# Altium integrated library Altium_WR-MM (rev22a).IntLib: 120 symbols (part 1 of 3)
Pins are listed as number, name and electrical type; pins without a type are passive.

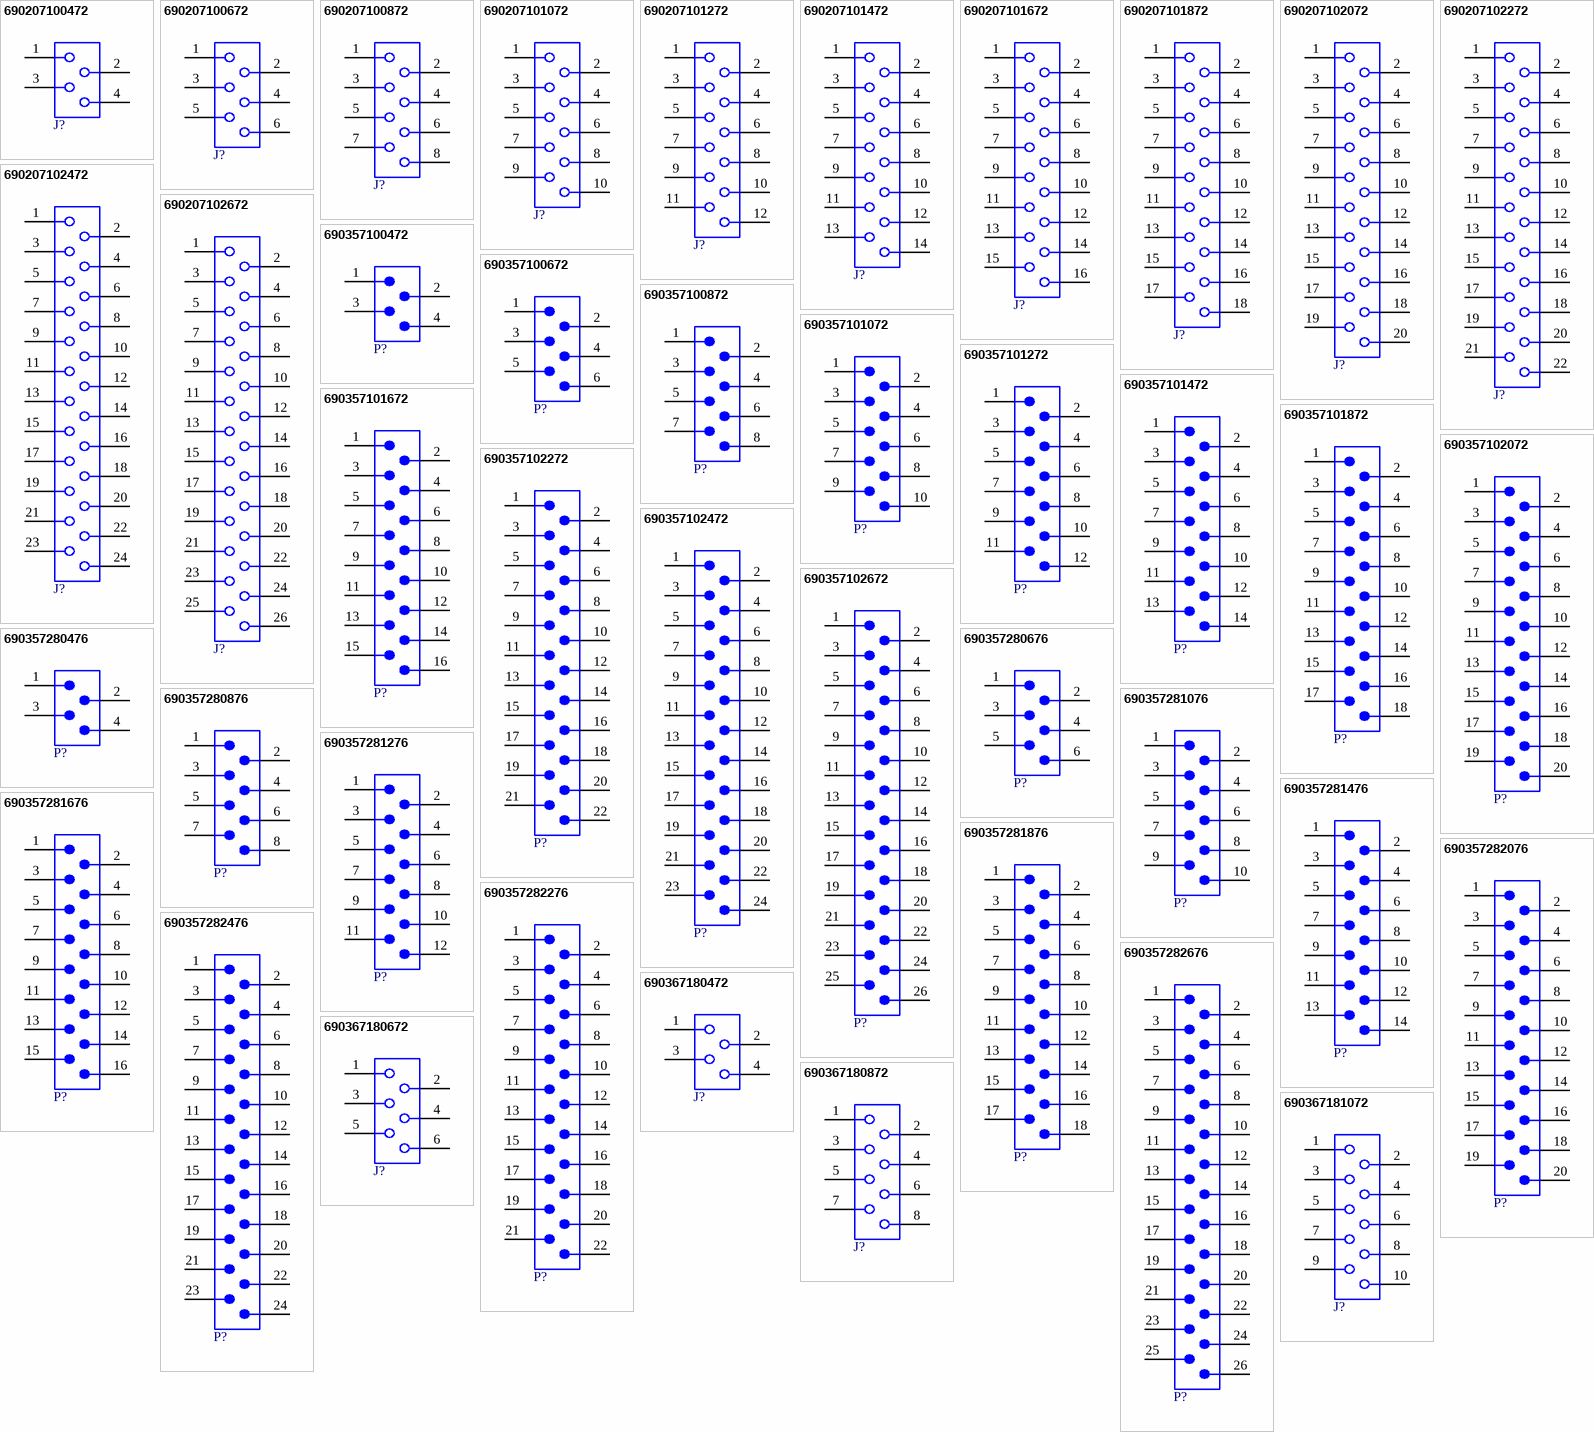
[diagram p0: symbols 690207100472 to 690367181072]

## 690207100472
designator J?  (value not drawn)
WR-MM Mini Module Connector, Transition, THT, Straight, pitch 2.54mm, 4p; Manufacturer: Wurth Elektronik; Contact Resistance: 10mΩ; Insulation Resistance: 1000MΩ; Rated Current: 1A; Working Voltage: 250VAC; Withstanding Voltage: 500VAC; ComponentLink1Description: Website Link; ComponentLink1URL: https://www.we-online.com/redexpert/article/690207100472?ad; ComponentLink2Description: Datasheet Link; ComponentLink2URL: https://www.we-online.com/redexpert/spec/690207100472?ad; Manufacturer Part Number: 690207100472; Category: Board-to-Board Connectors; Match Code: WR-MM; Mount: Through Hole; Operating Temperature Max: 105°C; Operating Temperature Min: -40°C; Packaging: Tube; Length: 8.51mm; Gender: Transition; Number of Pins: 4; Orientation: Straight; Pitch: 2.54mm
footprint 690207100472
pins: 1, 2, 3, 4

## 690207100672
designator J?  (value not drawn)
WR-MM Mini Module Connector, Transition, THT, Straight, pitch 2.54mm, 6p; Manufacturer: Wurth Elektronik; Contact Resistance: 10mΩ; Insulation Resistance: 1000MΩ; Rated Current: 1A; Working Voltage: 250VAC; Withstanding Voltage: 500VAC; ComponentLink1Description: Website Link; ComponentLink1URL: https://www.we-online.com/redexpert/article/690207100672?ad; ComponentLink2Description: Datasheet Link; ComponentLink2URL: https://www.we-online.com/redexpert/spec/690207100672?ad; Manufacturer Part Number: 690207100672; Category: Board-to-Board Connectors; Match Code: WR-MM; Mount: Through Hole; Operating Temperature Max: 105°C; Operating Temperature Min: -40°C; Packaging: Tube; Length: 11.05mm; Gender: Transition; Number of Pins: 6; Orientation: Straight; Pitch: 2.54mm
footprint 690207100672
pins: 1, 2, 3, 4, 5, 6

## 690207100872
designator J?  (value not drawn)
WR-MM Mini Module Connector, Transition, THT, Straight, pitch 2.54mm, 8p; Manufacturer: Wurth Elektronik; Contact Resistance: 10mΩ; Insulation Resistance: 1000MΩ; Rated Current: 1A; Working Voltage: 250VAC; Withstanding Voltage: 500VAC; ComponentLink1Description: Website Link; ComponentLink1URL: https://www.we-online.com/redexpert/article/690207100872?ad; ComponentLink2Description: Datasheet Link; ComponentLink2URL: https://www.we-online.com/redexpert/spec/690207100872?ad; Manufacturer Part Number: 690207100872; Category: Board-to-Board Connectors; Match Code: WR-MM; Mount: Through Hole; Operating Temperature Max: 105°C; Operating Temperature Min: -40°C; Packaging: Tube; Length: 13.59mm; Gender: Transition; Number of Pins: 8; Orientation: Straight; Pitch: 2.54mm
footprint 690207100872
pins: 1, 2, 3, 4, 5, 6, 7, 8

## 690207101072
designator J?  (value not drawn)
WR-MM Mini Module Connector, Transition, THT, Straight, pitch 2.54mm, 10p; Manufacturer: Wurth Elektronik; Contact Resistance: 10mΩ; Insulation Resistance: 1000MΩ; Rated Current: 1A; Working Voltage: 250VAC; Withstanding Voltage: 500VAC; ComponentLink1Description: Website Link; ComponentLink1URL: https://www.we-online.com/redexpert/article/690207101072?ad; ComponentLink2Description: Datasheet Link; ComponentLink2URL: https://www.we-online.com/redexpert/spec/690207101072?ad; Manufacturer Part Number: 690207101072; Category: Board-to-Board Connectors; Match Code: WR-MM; Mount: Through Hole; Operating Temperature Max: 105°C; Operating Temperature Min: -40°C; Packaging: Tube; Length: 16.13mm; Gender: Transition; Number of Pins: 10; Orientation: Straight; Pitch: 2.54mm
footprint 690207101072
pins: 1, 2, 3, 4, 5, 6, 7, 8, 9, 10

## 690207101272
designator J?  (value not drawn)
WR-MM Mini Module Connector, Transition, THT, Straight, pitch 2.54mm, 12p; Manufacturer: Wurth Elektronik; Contact Resistance: 10mΩ; Insulation Resistance: 1000MΩ; Rated Current: 1A; Working Voltage: 250VAC; Withstanding Voltage: 500VAC; ComponentLink1Description: Website Link; ComponentLink1URL: https://www.we-online.com/redexpert/article/690207101272?ad; ComponentLink2Description: Datasheet Link; ComponentLink2URL: https://www.we-online.com/redexpert/spec/690207101272?ad; Manufacturer Part Number: 690207101272; Category: Board-to-Board Connectors; Match Code: WR-MM; Mount: Through Hole; Operating Temperature Max: 105°C; Operating Temperature Min: -40°C; Packaging: Tube; Length: 18.67mm; Gender: Transition; Number of Pins: 12; Orientation: Straight; Pitch: 2.54mm
footprint 690207101272
pins: 1, 2, 3, 4, 5, 6, 7, 8, 9, 10, 11, 12

## 690207101472
designator J?  (value not drawn)
WR-MM Mini Module Connector, Transition, THT, Straight, pitch 2.54mm, 14p; Manufacturer: Wurth Elektronik; Contact Resistance: 10mΩ; Insulation Resistance: 1000MΩ; Rated Current: 1A; Working Voltage: 250VAC; Withstanding Voltage: 500VAC; ComponentLink1Description: Website Link; ComponentLink1URL: https://www.we-online.com/redexpert/article/690207101472?ad; ComponentLink2Description: Datasheet Link; ComponentLink2URL: https://www.we-online.com/redexpert/spec/690207101472?ad; Manufacturer Part Number: 690207101472; Category: Board-to-Board Connectors; Match Code: WR-MM; Mount: Through Hole; Operating Temperature Max: 105°C; Operating Temperature Min: -40°C; Packaging: Tube; Length: 21.21mm; Gender: Transition; Number of Pins: 14; Orientation: Straight; Pitch: 2.54mm
footprint 690207101472
pins: 1, 2, 3, 4, 5, 6, 7, 8, 9, 10, 11, 12, 13, 14

## 690207101672
designator J?  (value not drawn)
WR-MM Mini Module Connector, Transition, THT, Straight, pitch 2.54mm, 16p; Manufacturer: Wurth Elektronik; Contact Resistance: 10mΩ; Insulation Resistance: 1000MΩ; Rated Current: 1A; Working Voltage: 250VAC; Withstanding Voltage: 500VAC; ComponentLink1Description: Website Link; ComponentLink1URL: https://www.we-online.com/redexpert/article/690207101672?ad; ComponentLink2Description: Datasheet Link; ComponentLink2URL: https://www.we-online.com/redexpert/spec/690207101672?ad; Manufacturer Part Number: 690207101672; Category: Board-to-Board Connectors; Match Code: WR-MM; Mount: Through Hole; Operating Temperature Max: 105°C; Operating Temperature Min: -40°C; Packaging: Tube; Length: 23.75mm; Gender: Transition; Number of Pins: 16; Orientation: Straight; Pitch: 2.54mm
footprint 690207101672
pins: 1, 2, 3, 4, 5, 6, 7, 8, 9, 10, 11, 12, 13, 14, 15, 16

## 690207101872
designator J?  (value not drawn)
WR-MM Mini Module Connector, Transition, THT, Straight, pitch 2.54mm, 18p; Manufacturer: Wurth Elektronik; Contact Resistance: 10mΩ; Insulation Resistance: 1000MΩ; Rated Current: 1A; Working Voltage: 250VAC; Withstanding Voltage: 500VAC; ComponentLink1Description: Website Link; ComponentLink1URL: https://www.we-online.com/redexpert/article/690207101872?ad; ComponentLink2Description: Datasheet Link; ComponentLink2URL: https://www.we-online.com/redexpert/spec/690207101872?ad; Manufacturer Part Number: 690207101872; Category: Board-to-Board Connectors; Match Code: WR-MM; Mount: Through Hole; Operating Temperature Max: 105°C; Operating Temperature Min: -40°C; Packaging: Tube; Length: 26.29mm; Gender: Transition; Number of Pins: 18; Orientation: Straight; Pitch: 2.54mm
footprint 690207101872
pins: 1, 2, 3, 4, 5, 6, 7, 8, 9, 10, 11, 12, 13, 14, 15, 16, 17, 18

## 690207102072
designator J?  (value not drawn)
WR-MM Mini Module Connector, Transition, THT, Straight, pitch 2.54mm, 20p; Manufacturer: Wurth Elektronik; Contact Resistance: 10mΩ; Insulation Resistance: 1000MΩ; Rated Current: 1A; Working Voltage: 250VAC; Withstanding Voltage: 500VAC; ComponentLink1Description: Website Link; ComponentLink1URL: https://www.we-online.com/redexpert/article/690207102072?ad; ComponentLink2Description: Datasheet Link; ComponentLink2URL: https://www.we-online.com/redexpert/spec/690207102072?ad; Manufacturer Part Number: 690207102072; Category: Board-to-Board Connectors; Match Code: WR-MM; Mount: Through Hole; Operating Temperature Max: 105°C; Operating Temperature Min: -40°C; Packaging: Tube; Length: 28.83mm; Gender: Transition; Number of Pins: 20; Orientation: Straight; Pitch: 2.54mm
footprint 690207102072
pins: 1, 2, 3, 4, 5, 6, 7, 8, 9, 10, 11, 12, 13, 14, 15, 16, 17, 18, 19, 20

## 690207102272
designator J?  (value not drawn)
WR-MM Mini Module Connector, Transition, THT, Straight, pitch 2.54mm, 22p; Manufacturer: Wurth Elektronik; Contact Resistance: 10mΩ; Insulation Resistance: 1000MΩ; Rated Current: 1A; Working Voltage: 250VAC; Withstanding Voltage: 500VAC; ComponentLink1Description: Website Link; ComponentLink1URL: https://www.we-online.com/redexpert/article/690207102272?ad; ComponentLink2Description: Datasheet Link; ComponentLink2URL: https://www.we-online.com/redexpert/spec/690207102272?ad; Manufacturer Part Number: 690207102272; Category: Board-to-Board Connectors; Match Code: WR-MM; Mount: Through Hole; Operating Temperature Max: 105°C; Operating Temperature Min: -40°C; Packaging: Tube; Length: 31.37mm; Gender: Transition; Number of Pins: 22; Orientation: Straight; Pitch: 2.54mm
footprint 690207102272
pins: 1, 2, 3, 4, 5, 6, 7, 8, 9, 10, 11, 12, 13, 14, 15, 16, 17, 18, 19, 20, 21, 22

## 690207102472
designator J?  (value not drawn)
WR-MM Mini Module Connector, Transition, THT, Straight, pitch 2.54mm, 24p; Manufacturer: Wurth Elektronik; Contact Resistance: 10mΩ; Insulation Resistance: 1000MΩ; Rated Current: 1A; Working Voltage: 250VAC; Withstanding Voltage: 500VAC; ComponentLink1Description: Website Link; ComponentLink1URL: https://www.we-online.com/redexpert/article/690207102472?ad; ComponentLink2Description: Datasheet Link; ComponentLink2URL: https://www.we-online.com/redexpert/spec/690207102472?ad; Manufacturer Part Number: 690207102472; Category: Board-to-Board Connectors; Match Code: WR-MM; Mount: Through Hole; Operating Temperature Max: 105°C; Operating Temperature Min: -40°C; Packaging: Tube; Length: 33.91mm; Gender: Transition; Number of Pins: 24; Orientation: Straight; Pitch: 2.54mm
footprint 690207102472
pins: 1, 2, 3, 4, 5, 6, 7, 8, 9, 10, 11, 12, 13, 14, 15, 16, 17, 18, 19, 20, 21, 22, 23, 24

## 690207102672
designator J?  (value not drawn)
WR-MM Mini Module Connector, Transition, THT, Straight, pitch 2.54mm, 26p; Manufacturer: Wurth Elektronik; Contact Resistance: 10mΩ; Insulation Resistance: 1000MΩ; Rated Current: 1A; Working Voltage: 250VAC; Withstanding Voltage: 500VAC; ComponentLink1Description: Website Link; ComponentLink1URL: https://www.we-online.com/redexpert/article/690207102672?ad; ComponentLink2Description: Datasheet Link; ComponentLink2URL: https://www.we-online.com/redexpert/spec/690207102672?ad; Manufacturer Part Number: 690207102672; Category: Board-to-Board Connectors; Match Code: WR-MM; Mount: Through Hole; Operating Temperature Max: 105°C; Operating Temperature Min: -40°C; Packaging: Tube; Length: 36.45mm; Gender: Transition; Number of Pins: 26; Orientation: Straight; Pitch: 2.54mm
footprint 690207102672
pins: 1, 2, 3, 4, 5, 6, 7, 8, 9, 10, 11, 12, 13, 14, 15, 16, 17, 18, 19, 20, 21, 22, 23, 24, 25, 26

## 690357100472
designator P?  (value not drawn)
WR-MM Mini Module Connector, Male, THT, without Latch, with Polarization, Straight, pitch 2.54mm, 4p; Manufacturer: Wurth Elektronik; Contact Resistance: 10mΩ; Insulation Resistance: 1000MΩ; Rated Current: 1.5A; Working Voltage: 250VAC; Withstanding Voltage: 500VAC; ComponentLink1Description: Website Link; ComponentLink1URL: https://www.we-online.com/redexpert/article/690357100472?ad; ComponentLink2Description: Datasheet Link; ComponentLink2URL: https://www.we-online.com/redexpert/spec/690357100472?ad; Manufacturer Part Number: 690357100472; Category: Board-to-Board Connectors; Match Code: WR-MM; Mount: Through Hole; Operating Temperature Max: 105°C; Operating Temperature Min: -40°C; Packaging: Tube; Length: 7.11mm; Gender: Male; Number of Pins: 4; Orientation: Straight; Pitch: 2.54mm
footprint 690357100472
pins: 1, 2, 3, 4

## 690357100672
designator P?  (value not drawn)
WR-MM Mini Module Connector, Male, THT, without Latch, with Polarization, Straight, pitch 2.54mm, 6p; Manufacturer: Wurth Elektronik; Contact Resistance: 10mΩ; Insulation Resistance: 1000MΩ; Rated Current: 1.5A; Working Voltage: 250VAC; Withstanding Voltage: 500VAC; ComponentLink1Description: Website Link; ComponentLink1URL: https://www.we-online.com/redexpert/article/690357100672?ad; ComponentLink2Description: Datasheet Link; ComponentLink2URL: https://www.we-online.com/redexpert/spec/690357100672?ad; Manufacturer Part Number: 690357100672; Category: Board-to-Board Connectors; Match Code: WR-MM; Mount: Through Hole; Operating Temperature Max: 105°C; Operating Temperature Min: -40°C; Packaging: Tube; Length: 9.65mm; Gender: Male; Number of Pins: 6; Orientation: Straight; Pitch: 2.54mm
footprint 690357100672
pins: 1, 2, 3, 4, 5, 6

## 690357100872
designator P?  (value not drawn)
WR-MM Mini Module Connector, Male, THT, without Latch, with Polarization, Straight, pitch 2.54mm, 8p; Manufacturer: Wurth Elektronik; Contact Resistance: 10mΩ; Insulation Resistance: 1000MΩ; Rated Current: 1.5A; Working Voltage: 250VAC; Withstanding Voltage: 500VAC; ComponentLink1Description: Website Link; ComponentLink1URL: https://www.we-online.com/redexpert/article/690357100872?ad; ComponentLink2Description: Datasheet Link; ComponentLink2URL: https://www.we-online.com/redexpert/spec/690357100872?ad; Manufacturer Part Number: 690357100872; Category: Board-to-Board Connectors; Match Code: WR-MM; Mount: Through Hole; Operating Temperature Max: 105°C; Operating Temperature Min: -40°C; Packaging: Tube; Length: 12.19mm; Gender: Male; Number of Pins: 8; Orientation: Straight; Pitch: 2.54mm
footprint 690357100872
pins: 1, 2, 3, 4, 5, 6, 7, 8

## 690357101072
designator P?  (value not drawn)
WR-MM Mini Module Connector, Male, THT, without Latch, with Polarization, Straight, pitch 2.54mm, 10; Manufacturer: Wurth Elektronik; Contact Resistance: 10mΩ; Insulation Resistance: 1000MΩ; Rated Current: 1.5A; Working Voltage: 250VAC; Withstanding Voltage: 500VAC; ComponentLink1Description: Website Link; ComponentLink1URL: https://www.we-online.com/redexpert/article/690357101072?ad; ComponentLink2Description: Datasheet Link; ComponentLink2URL: https://www.we-online.com/redexpert/spec/690357101072?ad; Manufacturer Part Number: 690357101072; Category: Board-to-Board Connectors; Match Code: WR-MM; Mount: Through Hole; Operating Temperature Max: 105°C; Operating Temperature Min: -40°C; Packaging: Tube; Length: 14.73mm; Gender: Male; Number of Pins: 10; Orientation: Straight; Pitch: 2.54mm
footprint 690357101072
pins: 1, 2, 3, 4, 5, 6, 7, 8, 9, 10

## 690357101272
designator P?  (value not drawn)
WR-MM Mini Module Connector, Male, THT, without Latch, with Polarization, Straight, pitch 2.54mm, 12; Manufacturer: Wurth Elektronik; Contact Resistance: 10mΩ; Insulation Resistance: 1000MΩ; Rated Current: 1.5A; Working Voltage: 250VAC; Withstanding Voltage: 500VAC; ComponentLink1Description: Website Link; ComponentLink1URL: https://www.we-online.com/redexpert/article/690357101272?ad; ComponentLink2Description: Datasheet Link; ComponentLink2URL: https://www.we-online.com/redexpert/spec/690357101272?ad; Manufacturer Part Number: 690357101272; Category: Board-to-Board Connectors; Match Code: WR-MM; Mount: Through Hole; Operating Temperature Max: 105°C; Operating Temperature Min: -40°C; Packaging: Tube; Length: 17.27mm; Gender: Male; Number of Pins: 12; Orientation: Straight; Pitch: 2.54mm
footprint 690357101272
pins: 1, 2, 3, 4, 5, 6, 7, 8, 9, 10, 11, 12

## 690357101472
designator P?  (value not drawn)
WR-MM Mini Module Connector, Male, THT, without Latch, with Polarization, Straight, pitch 2.54mm, 14; Manufacturer: Wurth Elektronik; Contact Resistance: 10mΩ; Insulation Resistance: 1000MΩ; Rated Current: 1.5A; Working Voltage: 250VAC; Withstanding Voltage: 500VAC; ComponentLink1Description: Website Link; ComponentLink1URL: https://www.we-online.com/redexpert/article/690357101472?ad; ComponentLink2Description: Datasheet Link; ComponentLink2URL: https://www.we-online.com/redexpert/spec/690357101472?ad; Manufacturer Part Number: 690357101472; Category: Board-to-Board Connectors; Match Code: WR-MM; Mount: Through Hole; Operating Temperature Max: 105°C; Operating Temperature Min: -40°C; Packaging: Tube; Length: 19.81mm; Gender: Male; Number of Pins: 14; Orientation: Straight; Pitch: 2.54mm
footprint 690357101472
pins: 1, 2, 3, 4, 5, 6, 7, 8, 9, 10, 11, 12, 13, 14

## 690357101672
designator P?  (value not drawn)
WR-MM Mini Module Connector, Male, THT, without Latch, with Polarization, Straight, pitch 2.54mm, 16; Manufacturer: Wurth Elektronik; Contact Resistance: 10mΩ; Insulation Resistance: 1000MΩ; Rated Current: 1.5A; Working Voltage: 250VAC; Withstanding Voltage: 500VAC; ComponentLink1Description: Website Link; ComponentLink1URL: https://www.we-online.com/redexpert/article/690357101672?ad; ComponentLink2Description: Datasheet Link; ComponentLink2URL: https://www.we-online.com/redexpert/spec/690357101672?ad; Manufacturer Part Number: 690357101672; Category: Board-to-Board Connectors; Match Code: WR-MM; Mount: Through Hole; Operating Temperature Max: 105°C; Operating Temperature Min: -40°C; Packaging: Tube; Length: 22.35mm; Gender: Male; Number of Pins: 16; Orientation: Straight; Pitch: 2.54mm
footprint 690357101672
pins: 1, 2, 3, 4, 5, 6, 7, 8, 9, 10, 11, 12, 13, 14, 15, 16

## 690357101872
designator P?  (value not drawn)
WR-MM Mini Module Connector, Male, THT, without Latch, with Polarization, Straight, pitch 2.54mm, 18; Manufacturer: Wurth Elektronik; Contact Resistance: 10mΩ; Insulation Resistance: 1000MΩ; Rated Current: 1.5A; Working Voltage: 250VAC; Withstanding Voltage: 500VAC; ComponentLink1Description: Website Link; ComponentLink1URL: https://www.we-online.com/redexpert/article/690357101872?ad; ComponentLink2Description: Datasheet Link; ComponentLink2URL: https://www.we-online.com/redexpert/spec/690357101872?ad; Manufacturer Part Number: 690357101872; Category: Board-to-Board Connectors; Match Code: WR-MM; Mount: Through Hole; Operating Temperature Max: 105°C; Operating Temperature Min: -40°C; Packaging: Tube; Length: 24.89mm; Gender: Male; Number of Pins: 18; Orientation: Straight; Pitch: 2.54mm
footprint 690357101872
pins: 1, 2, 3, 4, 5, 6, 7, 8, 9, 10, 11, 12, 13, 14, 15, 16, 17, 18

## 690357102072
designator P?  (value not drawn)
WR-MM Mini Module Connector, Male, THT, without Latch, with Polarization, Straight, pitch 2.54mm, 20; Manufacturer: Wurth Elektronik; Contact Resistance: 10mΩ; Insulation Resistance: 1000MΩ; Rated Current: 1.5A; Working Voltage: 250VAC; Withstanding Voltage: 500VAC; ComponentLink1Description: Website Link; ComponentLink1URL: https://www.we-online.com/redexpert/article/690357102072?ad; ComponentLink2Description: Datasheet Link; ComponentLink2URL: https://www.we-online.com/redexpert/spec/690357102072?ad; Manufacturer Part Number: 690357102072; Category: Board-to-Board Connectors; Match Code: WR-MM; Mount: Through Hole; Operating Temperature Max: 105°C; Operating Temperature Min: -40°C; Packaging: Tube; Length: 27.43mm; Gender: Male; Number of Pins: 20; Orientation: Straight; Pitch: 2.54mm
footprint 690357102072
pins: 1, 2, 3, 4, 5, 6, 7, 8, 9, 10, 11, 12, 13, 14, 15, 16, 17, 18, 19, 20

## 690357102272
designator P?  (value not drawn)
WR-MM Mini Module Connector, Male, THT, without Latch, with Polarization, Straight, pitch 2.54mm, 22; Manufacturer: Wurth Elektronik; Contact Resistance: 10mΩ; Insulation Resistance: 1000MΩ; Rated Current: 1.5A; Working Voltage: 250VAC; Withstanding Voltage: 500VAC; ComponentLink1Description: Website Link; ComponentLink1URL: https://www.we-online.com/redexpert/article/690357102272?ad; ComponentLink2Description: Datasheet Link; ComponentLink2URL: https://www.we-online.com/redexpert/spec/690357102272?ad; Manufacturer Part Number: 690357102272; Category: Board-to-Board Connectors; Match Code: WR-MM; Mount: Through Hole; Operating Temperature Max: 105°C; Operating Temperature Min: -40°C; Packaging: Tube; Length: 29.97mm; Gender: Male; Number of Pins: 22; Orientation: Straight; Pitch: 2.54mm
footprint 690357102272
pins: 1, 2, 3, 4, 5, 6, 7, 8, 9, 10, 11, 12, 13, 14, 15, 16, 17, 18, 19, 20, 21, 22

## 690357102472
designator P?  (value not drawn)
WR-MM Mini Module Connector, Male, THT, without Latch, with Polarization, Straight, pitch 2.54mm, 24; Manufacturer: Wurth Elektronik; Contact Resistance: 10mΩ; Insulation Resistance: 1000MΩ; Rated Current: 1.5A; Working Voltage: 250VAC; Withstanding Voltage: 500VAC; ComponentLink1Description: Website Link; ComponentLink1URL: https://www.we-online.com/redexpert/article/690357102472?ad; ComponentLink2Description: Datasheet Link; ComponentLink2URL: https://www.we-online.com/redexpert/spec/690357102472?ad; Manufacturer Part Number: 690357102472; Category: Board-to-Board Connectors; Match Code: WR-MM; Mount: Through Hole; Operating Temperature Max: 105°C; Operating Temperature Min: -40°C; Packaging: Tube; Length: 32.51mm; Gender: Male; Number of Pins: 24; Orientation: Straight; Pitch: 2.54mm
footprint 690357102472
pins: 1, 2, 3, 4, 5, 6, 7, 8, 9, 10, 11, 12, 13, 14, 15, 16, 17, 18, 19, 20, 21, 22, 23, 24

## 690357102672
designator P?  (value not drawn)
WR-MM Mini Module Connector, Male, THT, without Latch, with Polarization, Straight, pitch 2.54mm, 26; Manufacturer: Wurth Elektronik; Contact Resistance: 10mΩ; Insulation Resistance: 1000MΩ; Rated Current: 1.5A; Working Voltage: 250VAC; Withstanding Voltage: 500VAC; ComponentLink1Description: Website Link; ComponentLink1URL: https://www.we-online.com/redexpert/article/690357102672?ad; ComponentLink2Description: Datasheet Link; ComponentLink2URL: https://www.we-online.com/redexpert/spec/690357102672?ad; Manufacturer Part Number: 690357102672; Category: Board-to-Board Connectors; Match Code: WR-MM; Mount: Through Hole; Operating Temperature Max: 105°C; Operating Temperature Min: -40°C; Packaging: Tube; Length: 35.05mm; Gender: Male; Number of Pins: 26; Orientation: Straight; Pitch: 2.54mm
footprint 690357102672
pins: 1, 2, 3, 4, 5, 6, 7, 8, 9, 10, 11, 12, 13, 14, 15, 16, 17, 18, 19, 20, 21, 22, 23, 24, 25, 26

## 690357280476
designator P?  (value not drawn)
WR-MM Mini Module Connector, Male, SMT, without Latch & Polarization, Straight, pitch 2.54mm, 4p; Manufacturer: Wurth Elektronik; Contact Resistance: 10mΩ; Insulation Resistance: 1000MΩ; Rated Current: 1.5A; Working Voltage: 250VAC; Withstanding Voltage: 500VAC; ComponentLink1Description: Website Link; ComponentLink1URL: https://www.we-online.com/redexpert/article/690357280476?ad; ComponentLink2Description: Datasheet Link; ComponentLink2URL: https://www.we-online.com/redexpert/spec/690357280476?ad; Manufacturer Part Number: 690357280476; Category: Board-to-Board Connectors; Match Code: WR-MM; Mount: Surface Mount; Operating Temperature Max: 105°C; Operating Temperature Min: -40°C; Packaging: Tape and Reel; Length: 7.11mm; Gender: Male; Number of Pins: 4; Orientation: Straight; Pitch: 2.54mm
footprint 690357280476
pins: 1, 2, 3, 4

## 690357280676
designator P?  (value not drawn)
WR-MM Mini Module Connector, Male, SMT, without Latch & Polarization, Straight, pitch 2.54mm, 6p; Manufacturer: Wurth Elektronik; Contact Resistance: 10mΩ; Insulation Resistance: 1000MΩ; Rated Current: 1.5A; Working Voltage: 250VAC; Withstanding Voltage: 500VAC; ComponentLink1Description: Website Link; ComponentLink1URL: https://www.we-online.com/redexpert/article/690357280676?ad; ComponentLink2Description: Datasheet Link; ComponentLink2URL: https://www.we-online.com/redexpert/spec/690357280676?ad; Manufacturer Part Number: 690357280676; Category: Board-to-Board Connectors; Match Code: WR-MM; Mount: Surface Mount; Operating Temperature Max: 105°C; Operating Temperature Min: -40°C; Packaging: Tape and Reel; Length: 9.65mm; Gender: Male; Number of Pins: 6; Orientation: Straight; Pitch: 2.54mm
footprint 690357280676
pins: 1, 2, 3, 4, 5, 6

## 690357280876
designator P?  (value not drawn)
WR-MM Mini Module Connector, Male, SMT, without Latch & Polarization, Straight, pitch 2.54mm, 8p; Manufacturer: Wurth Elektronik; Contact Resistance: 10mΩ; Insulation Resistance: 1000MΩ; Rated Current: 1.5A; Working Voltage: 250VAC; Withstanding Voltage: 500VAC; ComponentLink1Description: Website Link; ComponentLink1URL: https://www.we-online.com/redexpert/article/690357280876?ad; ComponentLink2Description: Datasheet Link; ComponentLink2URL: https://www.we-online.com/redexpert/spec/690357280876?ad; Manufacturer Part Number: 690357280876; Category: Board-to-Board Connectors; Match Code: WR-MM; Mount: Surface Mount; Operating Temperature Max: 105°C; Operating Temperature Min: -40°C; Packaging: Tape and Reel; Length: 12.19mm; Gender: Male; Number of Pins: 8; Orientation: Straight; Pitch: 2.54mm
footprint 690357280876
pins: 1, 2, 3, 4, 5, 6, 7, 8

## 690357281076
designator P?  (value not drawn)
WR-MM Mini Module Connector, Male, SMT, without Latch & Polarization, Straight, pitch 2.54mm, 10p; Manufacturer: Wurth Elektronik; Contact Resistance: 10mΩ; Insulation Resistance: 1000MΩ; Rated Current: 1.5A; Working Voltage: 250VAC; Withstanding Voltage: 500VAC; ComponentLink1Description: Website Link; ComponentLink1URL: https://www.we-online.com/redexpert/article/690357281076?ad; ComponentLink2Description: Datasheet Link; ComponentLink2URL: https://www.we-online.com/redexpert/spec/690357281076?ad; Manufacturer Part Number: 690357281076; Category: Board-to-Board Connectors; Match Code: WR-MM; Mount: Surface Mount; Operating Temperature Max: 105°C; Operating Temperature Min: -40°C; Packaging: Tape and Reel; Length: 14.73mm; Gender: Male; Number of Pins: 10; Orientation: Straight; Pitch: 2.54mm
footprint 690357281076
pins: 1, 2, 3, 4, 5, 6, 7, 8, 9, 10

## 690357281276
designator P?  (value not drawn)
WR-MM Mini Module Connector, Male, SMT, without Latch & Polarization, Straight, pitch 2.54mm, 12p; Manufacturer: Wurth Elektronik; Contact Resistance: 10mΩ; Insulation Resistance: 1000MΩ; Rated Current: 1.5A; Working Voltage: 250VAC; Withstanding Voltage: 500VAC; ComponentLink1Description: Website Link; ComponentLink1URL: https://www.we-online.com/redexpert/article/690357281276?ad; ComponentLink2Description: Datasheet Link; ComponentLink2URL: https://www.we-online.com/redexpert/spec/690357281276?ad; Manufacturer Part Number: 690357281276; Category: Board-to-Board Connectors; Match Code: WR-MM; Mount: Surface Mount; Operating Temperature Max: 105°C; Operating Temperature Min: -40°C; Packaging: Tape and Reel; Length: 17.27mm; Gender: Male; Number of Pins: 12; Orientation: Straight; Pitch: 2.54mm
footprint 690357281276
pins: 1, 2, 3, 4, 5, 6, 7, 8, 9, 10, 11, 12

## 690357281476
designator P?  (value not drawn)
WR-MM Mini Module Connector, Male, SMT, without Latch & Polarization, Straight, pitch 2.54mm, 14p; Manufacturer: Wurth Elektronik; Contact Resistance: 10mΩ; Insulation Resistance: 1000MΩ; Rated Current: 1.5A; Working Voltage: 250VAC; Withstanding Voltage: 500VAC; ComponentLink1Description: Website Link; ComponentLink1URL: https://www.we-online.com/redexpert/article/690357281476?ad; ComponentLink2Description: Datasheet Link; ComponentLink2URL: https://www.we-online.com/redexpert/spec/690357281476?ad; Manufacturer Part Number: 690357281476; Category: Board-to-Board Connectors; Match Code: WR-MM; Mount: Surface Mount; Operating Temperature Max: 105°C; Operating Temperature Min: -40°C; Packaging: Tape and Reel; Length: 19.81mm; Gender: Male; Number of Pins: 14; Orientation: Straight; Pitch: 2.54mm
footprint 690357281476
pins: 1, 2, 3, 4, 5, 6, 7, 8, 9, 10, 11, 12, 13, 14

## 690357281676
designator P?  (value not drawn)
WR-MM Mini Module Connector, Male, SMT, without Latch & Polarization, Straight, pitch 2.54mm, 16p; Manufacturer: Wurth Elektronik; Contact Resistance: 10mΩ; Insulation Resistance: 1000MΩ; Rated Current: 1.5A; Working Voltage: 250VAC; Withstanding Voltage: 500VAC; ComponentLink1Description: Website Link; ComponentLink1URL: https://www.we-online.com/redexpert/article/690357281676?ad; ComponentLink2Description: Datasheet Link; ComponentLink2URL: https://www.we-online.com/redexpert/spec/690357281676?ad; Manufacturer Part Number: 690357281676; Category: Board-to-Board Connectors; Match Code: WR-MM; Mount: Surface Mount; Operating Temperature Max: 105°C; Operating Temperature Min: -40°C; Packaging: Tape and Reel; Length: 22.35mm; Gender: Male; Number of Pins: 16; Orientation: Straight; Pitch: 2.54mm
footprint 690357281676
pins: 1, 2, 3, 4, 5, 6, 7, 8, 9, 10, 11, 12, 13, 14, 15, 16

## 690357281876
designator P?  (value not drawn)
WR-MM Mini Module Connector, Male, SMT, without Latch & Polarization, Straight, pitch 2.54mm, 18p; Manufacturer: Wurth Elektronik; Contact Resistance: 10mΩ; Insulation Resistance: 1000MΩ; Rated Current: 1.5A; Working Voltage: 250VAC; Withstanding Voltage: 500VAC; ComponentLink1Description: Website Link; ComponentLink1URL: https://www.we-online.com/redexpert/article/690357281876?ad; ComponentLink2Description: Datasheet Link; ComponentLink2URL: https://www.we-online.com/redexpert/spec/690357281876?ad; Manufacturer Part Number: 690357281876; Category: Board-to-Board Connectors; Match Code: WR-MM; Mount: Surface Mount; Operating Temperature Max: 105°C; Operating Temperature Min: -40°C; Packaging: Tape and Reel; Length: 24.89mm; Gender: Male; Number of Pins: 18; Orientation: Straight; Pitch: 2.54mm
footprint 690357281876
pins: 1, 2, 3, 4, 5, 6, 7, 8, 9, 10, 11, 12, 13, 14, 15, 16, 17, 18

## 690357282076
designator P?  (value not drawn)
WR-MM Mini Module Connector, Male, SMT, without Latch & Polarization, Straight, pitch 2.54mm, 20p; Manufacturer: Wurth Elektronik; Contact Resistance: 10mΩ; Insulation Resistance: 1000MΩ; Rated Current: 1.5A; Working Voltage: 250VAC; Withstanding Voltage: 500VAC; ComponentLink1Description: Website Link; ComponentLink1URL: https://www.we-online.com/redexpert/article/690357282076?ad; ComponentLink2Description: Datasheet Link; ComponentLink2URL: https://www.we-online.com/redexpert/spec/690357282076?ad; Manufacturer Part Number: 690357282076; Category: Board-to-Board Connectors; Match Code: WR-MM; Mount: Surface Mount; Operating Temperature Max: 105°C; Operating Temperature Min: -40°C; Packaging: Tape and Reel; Length: 27.43mm; Gender: Male; Number of Pins: 20; Orientation: Straight; Pitch: 2.54mm
footprint 690357282076
pins: 1, 2, 3, 4, 5, 6, 7, 8, 9, 10, 11, 12, 13, 14, 15, 16, 17, 18, 19, 20

## 690357282276
designator P?  (value not drawn)
WR-MM Mini Module Connector, Male, SMT, without Latch & Polarization, Straight, pitch 2.54mm, 22p; Manufacturer: Wurth Elektronik; Contact Resistance: 10mΩ; Insulation Resistance: 1000MΩ; Rated Current: 1.5A; Working Voltage: 250VAC; Withstanding Voltage: 500VAC; ComponentLink1Description: Website Link; ComponentLink1URL: https://www.we-online.com/redexpert/article/690357282276?ad; ComponentLink2Description: Datasheet Link; ComponentLink2URL: https://www.we-online.com/redexpert/spec/690357282276?ad; Manufacturer Part Number: 690357282276; Category: Board-to-Board Connectors; Match Code: WR-MM; Mount: Surface Mount; Operating Temperature Max: 105°C; Operating Temperature Min: -40°C; Packaging: Tape and Reel; Length: 29.97mm; Gender: Male; Number of Pins: 22; Orientation: Straight; Pitch: 2.54mm
footprint 690357282276
pins: 1, 2, 3, 4, 5, 6, 7, 8, 9, 10, 11, 12, 13, 14, 15, 16, 17, 18, 19, 20, 21, 22

## 690357282476
designator P?  (value not drawn)
WR-MM Mini Module Connector, Male, SMT, without Latch & Polarization, Straight, pitch 2.54mm, 24p; Manufacturer: Wurth Elektronik; Contact Resistance: 10mΩ; Insulation Resistance: 1000MΩ; Rated Current: 1.5A; Working Voltage: 250VAC; Withstanding Voltage: 500VAC; ComponentLink1Description: Website Link; ComponentLink1URL: https://www.we-online.com/redexpert/article/690357282476?ad; ComponentLink2Description: Datasheet Link; ComponentLink2URL: https://www.we-online.com/redexpert/spec/690357282476?ad; Manufacturer Part Number: 690357282476; Category: Board-to-Board Connectors; Match Code: WR-MM; Mount: Surface Mount; Operating Temperature Max: 105°C; Operating Temperature Min: -40°C; Packaging: Tape and Reel; Length: 32.51mm; Gender: Male; Number of Pins: 24; Orientation: Straight; Pitch: 2.54mm
footprint 690357282476
pins: 1, 2, 3, 4, 5, 6, 7, 8, 9, 10, 11, 12, 13, 14, 15, 16, 17, 18, 19, 20, 21, 22, 23, 24

## 690357282676
designator P?  (value not drawn)
WR-MM Mini Module Connector, Male, SMT, without Latch & Polarization, Straight, pitch 2.54mm, 26p; Manufacturer: Wurth Elektronik; Contact Resistance: 10mΩ; Insulation Resistance: 1000MΩ; Rated Current: 1.5A; Working Voltage: 250VAC; Withstanding Voltage: 500VAC; ComponentLink1Description: Website Link; ComponentLink1URL: https://www.we-online.com/redexpert/article/690357282676?ad; ComponentLink2Description: Datasheet Link; ComponentLink2URL: https://www.we-online.com/redexpert/spec/690357282676?ad; Manufacturer Part Number: 690357282676; Category: Board-to-Board Connectors; Match Code: WR-MM; Mount: Surface Mount; Operating Temperature Max: 105°C; Operating Temperature Min: -40°C; Packaging: Tape and Reel; Length: 35.05mm; Gender: Male; Number of Pins: 26; Orientation: Straight; Pitch: 2.54mm
footprint 690357282676
pins: 1, 2, 3, 4, 5, 6, 7, 8, 9, 10, 11, 12, 13, 14, 15, 16, 17, 18, 19, 20, 21, 22, 23, 24, 25, 26

## 690367180472
designator J?  (value not drawn)
WR-MM Mini Module Connector, Female, THT, without Latch & Polarization, Straight, pitch 2.54mm, 4p; Manufacturer: Wurth Elektronik; Contact Resistance: 10mΩ; Insulation Resistance: 1000MΩ; Rated Current: 1.5A; Working Voltage: 250VAC; Withstanding Voltage: 500VAC; ComponentLink1Description: Website Link; ComponentLink1URL: https://www.we-online.com/redexpert/article/690367180472?ad; ComponentLink2Description: Datasheet Link; ComponentLink2URL: https://www.we-online.com/redexpert/spec/690367180472?ad; Manufacturer Part Number: 690367180472; Category: Board-to-Board Connectors; Match Code: WR-MM; Mount: Through Hole; Operating Temperature Max: 105°C; Operating Temperature Min: -40°C; Packaging: Tube; Length: 7.08mm; Gender: Female; Number of Pins: 4; Orientation: Straight; Pitch: 2.54mm
footprint 690367180472
pins: 1, 2, 3, 4

## 690367180672
designator J?  (value not drawn)
WR-MM Mini Module Connector, Female, THT, without Latch & Polarization, Straight, pitch 2.54mm, 6p; Manufacturer: Wurth Elektronik; Contact Resistance: 10mΩ; Insulation Resistance: 1000MΩ; Rated Current: 1.5A; Working Voltage: 250VAC; Withstanding Voltage: 500VAC; ComponentLink1Description: Website Link; ComponentLink1URL: https://www.we-online.com/redexpert/article/690367180672?ad; ComponentLink2Description: Datasheet Link; ComponentLink2URL: https://www.we-online.com/redexpert/spec/690367180672?ad; Manufacturer Part Number: 690367180672; Category: Board-to-Board Connectors; Match Code: WR-MM; Mount: Through Hole; Operating Temperature Max: 105°C; Operating Temperature Min: -40°C; Packaging: Tube; Length: 9.62mm; Gender: Female; Number of Pins: 6; Orientation: Straight; Pitch: 2.54mm
footprint 690367180672
pins: 1, 2, 3, 4, 5, 6

## 690367180872
designator J?  (value not drawn)
WR-MM Mini Module Connector, Female, THT, without Latch & Polarization, Straight, pitch 2.54mm, 8p; Manufacturer: Wurth Elektronik; Contact Resistance: 10mΩ; Insulation Resistance: 1000MΩ; Rated Current: 1.5A; Working Voltage: 250VAC; Withstanding Voltage: 500VAC; ComponentLink1Description: Website Link; ComponentLink1URL: https://www.we-online.com/redexpert/article/690367180872?ad; ComponentLink2Description: Datasheet Link; ComponentLink2URL: https://www.we-online.com/redexpert/spec/690367180872?ad; Manufacturer Part Number: 690367180872; Category: Board-to-Board Connectors; Match Code: WR-MM; Mount: Through Hole; Operating Temperature Max: 105°C; Operating Temperature Min: -40°C; Packaging: Tube; Length: 12.16mm; Gender: Female; Number of Pins: 8; Orientation: Straight; Pitch: 2.54mm
footprint 690367180872
pins: 1, 2, 3, 4, 5, 6, 7, 8

## 690367181072
designator J?  (value not drawn)
WR-MM Mini Module Connector, Female, THT, without Latch & Polarization, Straight, pitch 2.54mm, 10p; Manufacturer: Wurth Elektronik; Contact Resistance: 10mΩ; Insulation Resistance: 1000MΩ; Rated Current: 1.5A; Working Voltage: 250VAC; Withstanding Voltage: 500VAC; ComponentLink1Description: Website Link; ComponentLink1URL: https://www.we-online.com/redexpert/article/690367181072?ad; ComponentLink2Description: Datasheet Link; ComponentLink2URL: https://www.we-online.com/redexpert/spec/690367181072?ad; Manufacturer Part Number: 690367181072; Category: Board-to-Board Connectors; Match Code: WR-MM; Mount: Through Hole; Operating Temperature Max: 105°C; Operating Temperature Min: -40°C; Packaging: Tube; Length: 14.7mm; Gender: Female; Number of Pins: 10; Orientation: Straight; Pitch: 2.54mm
footprint 690367181072
pins: 1, 2, 3, 4, 5, 6, 7, 8, 9, 10

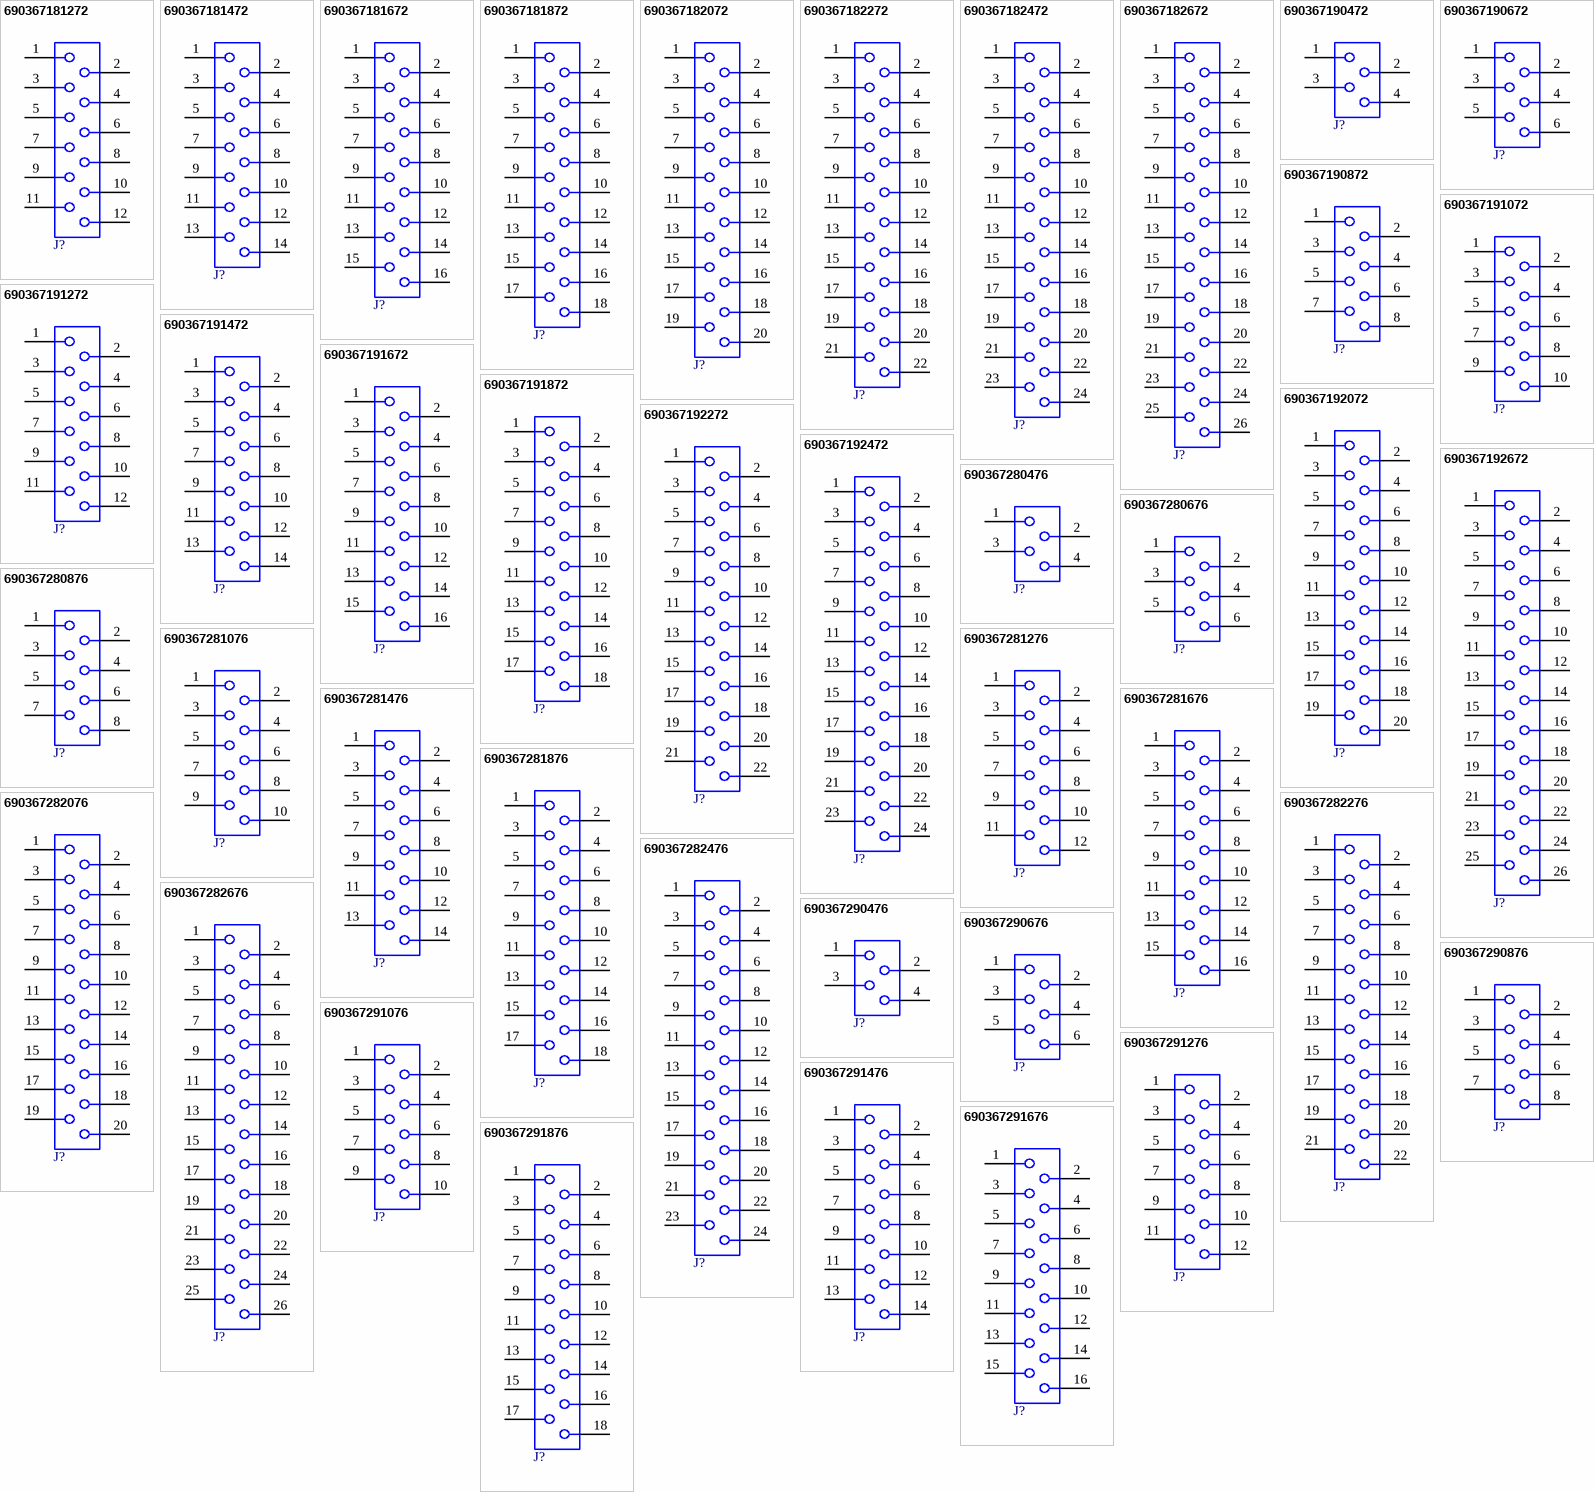
[diagram p1: symbols 690367181272 to 690367291876]

## 690367181272
designator J?  (value not drawn)
WR-MM Mini Module Connector, Female, THT, without Latch & Polarization, Straight, pitch 2.54mm, 12p; Manufacturer: Wurth Elektronik; Contact Resistance: 10mΩ; Insulation Resistance: 1000MΩ; Rated Current: 1.5A; Working Voltage: 250VAC; Withstanding Voltage: 500VAC; ComponentLink1Description: Website Link; ComponentLink1URL: https://www.we-online.com/redexpert/article/690367181272?ad; ComponentLink2Description: Datasheet Link; ComponentLink2URL: https://www.we-online.com/redexpert/spec/690367181272?ad; Manufacturer Part Number: 690367181272; Category: Board-to-Board Connectors; Match Code: WR-MM; Mount: Through Hole; Operating Temperature Max: 105°C; Operating Temperature Min: -40°C; Packaging: Tube; Length: 17.24mm; Gender: Female; Number of Pins: 12; Orientation: Straight; Pitch: 2.54mm
footprint 690367181272
pins: 1, 2, 3, 4, 5, 6, 7, 8, 9, 10, 11, 12

## 690367181472
designator J?  (value not drawn)
WR-MM Mini Module Connector, Female, THT, without Latch & Polarization, Straight, pitch 2.54mm, 14p; Manufacturer: Wurth Elektronik; Contact Resistance: 10mΩ; Insulation Resistance: 1000MΩ; Rated Current: 1.5A; Working Voltage: 250VAC; Withstanding Voltage: 500VAC; ComponentLink1Description: Website Link; ComponentLink1URL: https://www.we-online.com/redexpert/article/690367181472?ad; ComponentLink2Description: Datasheet Link; ComponentLink2URL: https://www.we-online.com/redexpert/spec/690367181472?ad; Manufacturer Part Number: 690367181472; Category: Board-to-Board Connectors; Match Code: WR-MM; Mount: Through Hole; Operating Temperature Max: 105°C; Operating Temperature Min: -40°C; Packaging: Tube; Length: 19.78mm; Gender: Female; Number of Pins: 14; Orientation: Straight; Pitch: 2.54mm
footprint 690367181472
pins: 1, 2, 3, 4, 5, 6, 7, 8, 9, 10, 11, 12, 13, 14

## 690367181672
designator J?  (value not drawn)
WR-MM Mini Module Connector, Female, THT, without Latch & Polarization, Straight, pitch 2.54mm, 16p; Manufacturer: Wurth Elektronik; Contact Resistance: 10mΩ; Insulation Resistance: 1000MΩ; Rated Current: 1.5A; Working Voltage: 250VAC; Withstanding Voltage: 500VAC; ComponentLink1Description: Website Link; ComponentLink1URL: https://www.we-online.com/redexpert/article/690367181672?ad; ComponentLink2Description: Datasheet Link; ComponentLink2URL: https://www.we-online.com/redexpert/spec/690367181672?ad; Manufacturer Part Number: 690367181672; Category: Board-to-Board Connectors; Match Code: WR-MM; Mount: Through Hole; Operating Temperature Max: 105°C; Operating Temperature Min: -40°C; Packaging: Tube; Length: 22.32mm; Gender: Female; Number of Pins: 16; Orientation: Straight; Pitch: 2.54mm
footprint 690367181672
pins: 1, 2, 3, 4, 5, 6, 7, 8, 9, 10, 11, 12, 13, 14, 15, 16

## 690367181872
designator J?  (value not drawn)
WR-MM Mini Module Connector, Female, THT, without Latch & Polarization, Straight, pitch 2.54mm, 18p; Manufacturer: Wurth Elektronik; Contact Resistance: 10mΩ; Insulation Resistance: 1000MΩ; Rated Current: 1.5A; Working Voltage: 250VAC; Withstanding Voltage: 500VAC; ComponentLink1Description: Website Link; ComponentLink1URL: https://www.we-online.com/redexpert/article/690367181872?ad; ComponentLink2Description: Datasheet Link; ComponentLink2URL: https://www.we-online.com/redexpert/spec/690367181872?ad; Manufacturer Part Number: 690367181872; Category: Board-to-Board Connectors; Match Code: WR-MM; Mount: Through Hole; Operating Temperature Max: 105°C; Operating Temperature Min: -40°C; Packaging: Tube; Length: 24.86mm; Gender: Female; Number of Pins: 18; Orientation: Straight; Pitch: 2.54mm
footprint 690367181872
pins: 1, 2, 3, 4, 5, 6, 7, 8, 9, 10, 11, 12, 13, 14, 15, 16, 17, 18

## 690367182072
designator J?  (value not drawn)
WR-MM Mini Module Connector, Female, THT, without Latch & Polarization, Straight, pitch 2.54mm, 20p; Manufacturer: Wurth Elektronik; Contact Resistance: 10mΩ; Insulation Resistance: 1000MΩ; Rated Current: 1.5A; Working Voltage: 250VAC; Withstanding Voltage: 500VAC; ComponentLink1Description: Website Link; ComponentLink1URL: https://www.we-online.com/redexpert/article/690367182072?ad; ComponentLink2Description: Datasheet Link; ComponentLink2URL: https://www.we-online.com/redexpert/spec/690367182072?ad; Manufacturer Part Number: 690367182072; Category: Board-to-Board Connectors; Match Code: WR-MM; Mount: Through Hole; Operating Temperature Max: 105°C; Operating Temperature Min: -40°C; Packaging: Tube; Length: 27.4mm; Gender: Female; Number of Pins: 20; Orientation: Straight; Pitch: 2.54mm
footprint 690367182072
pins: 1, 2, 3, 4, 5, 6, 7, 8, 9, 10, 11, 12, 13, 14, 15, 16, 17, 18, 19, 20

## 690367182272
designator J?  (value not drawn)
WR-MM Mini Module Connector, Female, THT, without Latch & Polarization, Straight, pitch 2.54mm, 22p; Manufacturer: Wurth Elektronik; Contact Resistance: 10mΩ; Insulation Resistance: 1000MΩ; Rated Current: 1.5A; Working Voltage: 250VAC; Withstanding Voltage: 500VAC; ComponentLink1Description: Website Link; ComponentLink1URL: https://www.we-online.com/redexpert/article/690367182272?ad; ComponentLink2Description: Datasheet Link; ComponentLink2URL: https://www.we-online.com/redexpert/spec/690367182272?ad; Manufacturer Part Number: 690367182272; Category: Board-to-Board Connectors; Match Code: WR-MM; Mount: Through Hole; Operating Temperature Max: 105°C; Operating Temperature Min: -40°C; Packaging: Tube; Length: 29.94mm; Gender: Female; Number of Pins: 22; Orientation: Straight; Pitch: 2.54mm
footprint 690367182272
pins: 1, 2, 3, 4, 5, 6, 7, 8, 9, 10, 11, 12, 13, 14, 15, 16, 17, 18, 19, 20, 21, 22

## 690367182472
designator J?  (value not drawn)
WR-MM Mini Module Connector, Female, THT, without Latch & Polarization, Straight, pitch 2.54mm, 24p; Manufacturer: Wurth Elektronik; Contact Resistance: 10mΩ; Insulation Resistance: 1000MΩ; Rated Current: 1.5A; Working Voltage: 250VAC; Withstanding Voltage: 500VAC; ComponentLink1Description: Website Link; ComponentLink1URL: https://www.we-online.com/redexpert/article/690367182472?ad; ComponentLink2Description: Datasheet Link; ComponentLink2URL: https://www.we-online.com/redexpert/spec/690367182472?ad; Manufacturer Part Number: 690367182472; Category: Board-to-Board Connectors; Match Code: WR-MM; Mount: Through Hole; Operating Temperature Max: 105°C; Operating Temperature Min: -40°C; Packaging: Tube; Length: 32.48mm; Gender: Female; Number of Pins: 24; Orientation: Straight; Pitch: 2.54mm
footprint 690367182472
pins: 1, 2, 3, 4, 5, 6, 7, 8, 9, 10, 11, 12, 13, 14, 15, 16, 17, 18, 19, 20, 21, 22, 23, 24

## 690367182672
designator J?  (value not drawn)
WR-MM Mini Module Connector, Female, THT, without Latch & Polarization, Straight, pitch 2.54mm, 26p; Manufacturer: Wurth Elektronik; Contact Resistance: 10mΩ; Insulation Resistance: 1000MΩ; Rated Current: 1.5A; Working Voltage: 250VAC; Withstanding Voltage: 500VAC; ComponentLink1Description: Website Link; ComponentLink1URL: https://www.we-online.com/redexpert/article/690367182672?ad; ComponentLink2Description: Datasheet Link; ComponentLink2URL: https://www.we-online.com/redexpert/spec/690367182672?ad; Manufacturer Part Number: 690367182672; Category: Board-to-Board Connectors; Match Code: WR-MM; Mount: Through Hole; Operating Temperature Max: 105°C; Operating Temperature Min: -40°C; Packaging: Tube; Length: 35.02mm; Gender: Female; Number of Pins: 26; Orientation: Straight; Pitch: 2.54mm
footprint 690367182672
pins: 1, 2, 3, 4, 5, 6, 7, 8, 9, 10, 11, 12, 13, 14, 15, 16, 17, 18, 19, 20, 21, 22, 23, 24, 25, 26

## 690367190472
designator J?  (value not drawn)
WR-MM Mini Module Connector, Female, THT, with Latch, without Polarization, Straight, pitch 2.54mm,; Manufacturer: Wurth Elektronik; Contact Resistance: 10mΩ; Insulation Resistance: 1000MΩ; Rated Current: 1.5A; Working Voltage: 250VAC; Withstanding Voltage: 500VAC; ComponentLink1Description: Website Link; ComponentLink1URL: https://www.we-online.com/redexpert/article/690367190472?ad; ComponentLink2Description: Datasheet Link; ComponentLink2URL: https://www.we-online.com/redexpert/spec/690367190472?ad; Manufacturer Part Number: 690367190472; Category: Board-to-Board Connectors; Match Code: WR-MM; Mount: Through Hole; Operating Temperature Max: 105°C; Operating Temperature Min: -40°C; Packaging: Tube; Length: 9.68mm; Gender: Female; Number of Pins: 4; Orientation: Straight; Pitch: 2.54mm
footprint 690367190472
pins: 1, 2, 3, 4

## 690367190672
designator J?  (value not drawn)
WR-MM Mini Module Connector, Female, THT, with Latch, without Polarization, Straight, pitch 2.54mm,; Manufacturer: Wurth Elektronik; Contact Resistance: 10mΩ; Insulation Resistance: 1000MΩ; Rated Current: 1.5A; Working Voltage: 250VAC; Withstanding Voltage: 500VAC; ComponentLink1Description: Website Link; ComponentLink1URL: https://www.we-online.com/redexpert/article/690367190672?ad; ComponentLink2Description: Datasheet Link; ComponentLink2URL: https://www.we-online.com/redexpert/spec/690367190672?ad; Manufacturer Part Number: 690367190672; Category: Board-to-Board Connectors; Match Code: WR-MM; Mount: Through Hole; Operating Temperature Max: 105°C; Operating Temperature Min: -40°C; Packaging: Tube; Length: 12.22mm; Gender: Female; Number of Pins: 6; Orientation: Straight; Pitch: 2.54mm
footprint 690367190672
pins: 1, 2, 3, 4, 5, 6

## 690367190872
designator J?  (value not drawn)
WR-MM Mini Module Connector, Female, THT, with Latch, without Polarization, Straight, pitch 2.54mm,; Manufacturer: Wurth Elektronik; Contact Resistance: 10mΩ; Insulation Resistance: 1000MΩ; Rated Current: 1.5A; Working Voltage: 250VAC; Withstanding Voltage: 500VAC; ComponentLink1Description: Website Link; ComponentLink1URL: https://www.we-online.com/redexpert/article/690367190872?ad; ComponentLink2Description: Datasheet Link; ComponentLink2URL: https://www.we-online.com/redexpert/spec/690367190872?ad; Manufacturer Part Number: 690367190872; Category: Board-to-Board Connectors; Match Code: WR-MM; Mount: Through Hole; Operating Temperature Max: 105°C; Operating Temperature Min: -40°C; Packaging: Tube; Length: 14.76mm; Gender: Female; Number of Pins: 8; Orientation: Straight; Pitch: 2.54mm
footprint 690367190872
pins: 1, 2, 3, 4, 5, 6, 7, 8

## 690367191072
designator J?  (value not drawn)
WR-MM Mini Module Connector, Female, THT, with Latch, without Polarization, Straight, pitch 2.54mm,; Manufacturer: Wurth Elektronik; Contact Resistance: 10mΩ; Insulation Resistance: 1000MΩ; Rated Current: 1.5A; Working Voltage: 250VAC; Withstanding Voltage: 500VAC; ComponentLink1Description: Website Link; ComponentLink1URL: https://www.we-online.com/redexpert/article/690367191072?ad; ComponentLink2Description: Datasheet Link; ComponentLink2URL: https://www.we-online.com/redexpert/spec/690367191072?ad; Manufacturer Part Number: 690367191072; Category: Board-to-Board Connectors; Match Code: WR-MM; Mount: Through Hole; Operating Temperature Max: 105°C; Operating Temperature Min: -40°C; Packaging: Tube; Length: 17.3mm; Gender: Female; Number of Pins: 10; Orientation: Straight; Pitch: 2.54mm
footprint 690367191072
pins: 1, 2, 3, 4, 5, 6, 7, 8, 9, 10

## 690367191272
designator J?  (value not drawn)
WR-MM Mini Module Connector, Female, THT, with Latch, without Polarization, Straight, pitch 2.54mm,; Manufacturer: Wurth Elektronik; Contact Resistance: 10mΩ; Insulation Resistance: 1000MΩ; Rated Current: 1.5A; Working Voltage: 250VAC; Withstanding Voltage: 500VAC; ComponentLink1Description: Website Link; ComponentLink1URL: https://www.we-online.com/redexpert/article/690367191272?ad; ComponentLink2Description: Datasheet Link; ComponentLink2URL: https://www.we-online.com/redexpert/spec/690367191272?ad; Manufacturer Part Number: 690367191272; Category: Board-to-Board Connectors; Match Code: WR-MM; Mount: Through Hole; Operating Temperature Max: 105°C; Operating Temperature Min: -40°C; Packaging: Tube; Length: 19.84mm; Gender: Female; Number of Pins: 12; Orientation: Straight; Pitch: 2.54mm
footprint 690367191272
pins: 1, 2, 3, 4, 5, 6, 7, 8, 9, 10, 11, 12